# Altium footprint library LED_THT.PcbLib: 82 footprints (part 3 of 6)
Each footprint in its own frame and in the unit in brackets; x right, y up, seen from the top. Pads: shape width x height; smd on the part's side, far side on the other; paste and mask are expansions set on the pad; w line width, h text height; cw(c..) or ccw(c..) is an arc to the next point about the centre after c.
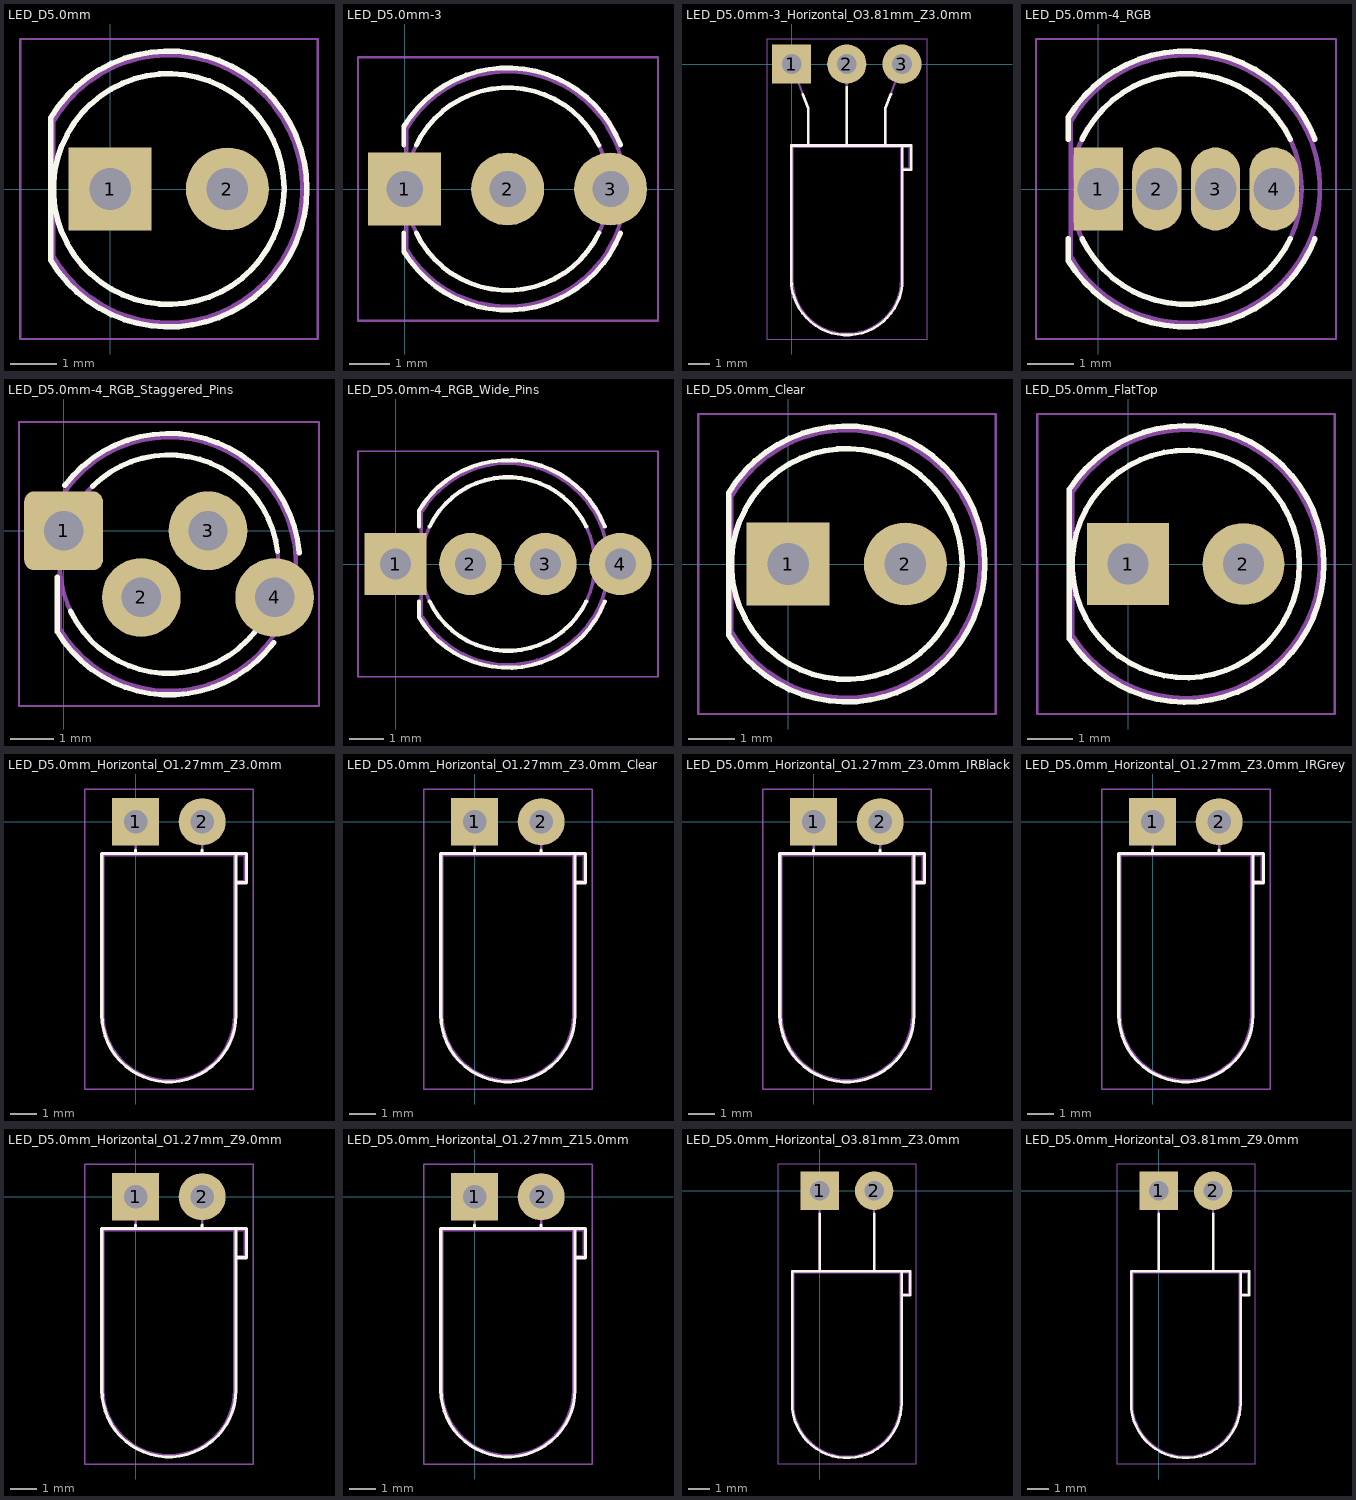
[diagram p2: the footprints below, top view; thin cyan lines are the x and y axes]

## LED_D5.0mm [mm]
pads (2):
  rect 1.8x1.8 hole 0.9: 1(0,0)
  round 1.8 hole 0.9: 2(2.54,0)
F.SilkS:
  circle w0.12: c1.27,0 r2.5
  lines w0.12: -1.29,-1.545 -1.29,1.545 ; -1.29,-1.545 ccw(c1.27,0) 4.26,0 ccw(c1.27,0) -1.29,1.545
F.CrtYd:
  lines w0.05: -1.95,-3.25 4.5,-3.25 4.5,3.25 -1.95,3.25 -1.95,-3.25
F.Fab:
  circle w0.1: c1.27,0 r2.5
  lines w0.1: -1.23,-1.47 -1.23,1.47 cw(c1.27,0) -1.23,-1.47
  text "'.Designator'" at -2.067,-0.752 h0.8

## LED_D5.0mm-3 [mm]
pads (3):
  rect 1.8x1.8 hole 0.9: 1(0,0)
  round 1.8 hole 0.9: 2(2.54,0) 3(5.08,0)
F.SilkS:
  lines w0.12: -0.02,-1.545 -0.02,-1.08 ; -0.02,-1.545 ccw(c2.54,0) 5.328,-1.081 ; -0.02,1.08 -0.02,1.545 ; -0.02,1.545 cw(c2.54,0) 5.328,1.081 ; 0.285,-1.08 ccw(c2.54,0) 4.794,-1.08 ; 0.285,1.08 cw(c2.54,0) 4.794,1.08
F.CrtYd:
  lines w0.05: -1.15,-3.25 -1.15,3.25 6.25,3.25 6.25,-3.25 -1.15,-3.25
F.Fab:
  circle w0.1: c2.54,0 r2.5
  lines w0.1: 0.04,-1.47 0.04,1.47 cw(c2.54,0) 0.04,-1.47

## LED_D5.0mm-3_Horizontal_O3.81mm_Z3.0mm [mm]
pads (3):
  rect 1.8x1.8 hole 0.9: 1(0,0)
  round 1.8 hole 0.9: 2(2.54,0) 3(5.08,0)
F.SilkS:
  lines w0.12: 0.508,-1.397 0.762,-2.032 0.762,-3.75 ; 4.318,-3.75 4.318,-2.032 4.572,-1.397 ; 5.1,-3.75 5.1,-4.87 5.5,-4.87 5.5,-3.75 5.1,-3.75 ; 5.1,-3.75 -0.02,-3.75 -0.02,-9.91 ccw(c2.54,-9.91) 5.1,-9.91 5.1,-3.75 ; 2.54,-3.75 2.54,-1.08 2.54,-3.75
F.CrtYd:
  lines w0.05: -1.15,-12.65 -1.15,1.15 6.25,1.15 6.25,-12.65 -1.15,-12.65
F.Fab:
  lines w0.1: 0,0 0.762,-2.032 0.762,-3.81 ; 4.318,-3.81 4.318,-2.032 5.08,0 ; 5.04,-3.81 0.04,-3.81 0.04,-9.91 ccw(c2.54,-9.91) 5.04,-9.91 5.04,-3.81 ; 5.04,-3.81 5.04,-4.81 5.44,-4.81 5.44,-3.81 5.04,-3.81 ; 2.54,-3.81 2.54,0 2.54,-3.81
  text "'.Designator'" at -1.507,-8.46 h1

## LED_D5.0mm-4_RGB [mm]
pads (4):
  rect 1.07x1.8 hole 0.9: 1(0,0)
  rrect100% 1.07x1.8 hole 0.9: 2(1.27,0) 3(2.54,0) 4(3.81,0)
F.SilkS:
  lines w0.12: -0.655,-1.545 -0.655,-1.08 ; -0.655,-1.545 ccw(c1.905,0) 4.693,-1.081 ; -0.655,1.08 -0.655,1.545 ; -0.655,1.545 cw(c1.905,0) 4.693,1.081 ; -0.35,-1.08 ccw(c1.905,0) 4.159,-1.08 ; -0.35,1.08 cw(c1.905,0) 4.159,1.08
F.CrtYd:
  lines w0.05: -1.35,-3.25 5.15,-3.25 5.15,3.25 -1.35,3.25 -1.35,-3.25
F.Fab:
  circle w0.1: c1.905,0 r2.5
  lines w0.1: -0.595,-1.47 -0.595,1.47 cw(c1.905,0) -0.595,-1.47
  text "'.Designator'" at -2.142,3.12 h1

## LED_D5.0mm-4_RGB_Staggered_Pins [mm]
pads (4):
  rrect25% 1.8x1.8 hole 0.9: 1(0,0)
  round 1.8 hole 0.9: 2(1.778,-1.524) 3(3.302,0) 4(4.826,-1.524)
F.SilkS:
  lines w0.12: -0.147,-2.307 -0.147,-1.061 ; -0.147,-2.307 ccw(c2.413,-0.762) 4.804,-2.557 ; 0.028,1.038 cw(c2.413,-0.762) 5.39,-0.504 ; 0.158,-1.842 ccw(c2.413,-0.762) 4.372,-2.315 ; 0.66,1.016 cw(c2.413,-0.762) 4.893,-0.476
F.CrtYd:
  lines w0.05: -1.02,-4.01 -1.02,2.49 5.84,2.49 5.84,-4.01 -1.02,-4.01
F.Fab:
  circle w0.1: c2.413,-0.762 r2.5
  lines w0.1: -0.087,-2.232 -0.087,0.708 cw(c2.413,-0.762) -0.087,-2.232
  text "'.Designator'" at -1.634,2.358 h1

## LED_D5.0mm-4_RGB_Wide_Pins [mm]
pads (4):
  rect 1.8x1.8 hole 0.9: 1(0,0)
  round 1.8 hole 0.9: 2(2.159,0) 3(4.318,0) 4(6.477,0)
F.SilkS:
  lines w0.12: 0.679,-1.545 0.679,-1.08 ; 0.679,-1.545 ccw(c3.238,0) 6.026,-1.081 ; 0.679,1.08 0.679,1.545 ; 0.679,1.545 cw(c3.238,0) 6.026,1.081 ; 0.984,-1.08 ccw(c3.238,0) 5.493,-1.08 ; 0.984,1.08 cw(c3.238,0) 5.493,1.08
F.CrtYd:
  lines w0.05: -1.08,-3.25 -1.08,3.25 7.56,3.25 7.56,-3.25 -1.08,-3.25
F.Fab:
  circle w0.1: c3.238,0 r2.5
  lines w0.1: 0.738,-1.47 0.738,1.47 cw(c3.238,0) 0.738,-1.47
  text "'.Designator'" at -0.808,3.12 h1

## LED_D5.0mm_Clear [mm]
pads (2):
  rect 1.8x1.8 hole 0.9: 1(0,0)
  round 1.8 hole 0.9: 2(2.54,0)
F.SilkS:
  circle w0.12: c1.27,0 r2.5
  lines w0.12: -1.29,-1.545 -1.29,1.545 ; -1.29,-1.545 ccw(c1.27,0) 4.26,0 ccw(c1.27,0) -1.29,1.545
F.CrtYd:
  lines w0.05: -1.95,-3.25 4.5,-3.25 4.5,3.25 -1.95,3.25 -1.95,-3.25
F.Fab:
  circle w0.1: c1.27,0 r2.5
  lines w0.1: -1.23,-1.47 -1.23,1.47 cw(c1.27,0) -1.23,-1.47
  text "'.Designator'" at -2.067,-0.752 h0.8

## LED_D5.0mm_FlatTop [mm]
pads (2):
  rect 1.8x1.8 hole 0.9: 1(0,0)
  round 1.8 hole 0.9: 2(2.54,0)
F.SilkS:
  circle w0.12: c1.27,0 r2.5
  lines w0.12: 4.31,-0.002 ccw(c1.27,0) -1.29,1.64 -1.29,-1.64 ccw(c1.27,0) 4.31,0.002
F.CrtYd:
  lines w0.05: -2,-3.3 4.55,-3.3 4.55,3.3 -2,3.3 -2,-3.3
F.Fab:
  circle w0.1: c1.27,0 r2.5
  lines w0.1: -1.23,-1.566 -1.23,1.566 cw(c1.27,0) -1.231,-1.565

## LED_D5.0mm_Horizontal_O1.27mm_Z3.0mm [mm]
pads (2):
  rect 1.8x1.8 hole 0.9: 1(0,0)
  round 1.8 hole 0.9: 2(2.54,0)
F.SilkS:
  lines w0.12: 3.83,-1.21 4.23,-1.21 4.23,-2.33 3.83,-2.33 3.83,-1.21 ; 3.83,-1.21 -1.29,-1.21 -1.29,-7.37 ccw(c1.27,-7.37) 3.83,-7.37 3.83,-1.21 ; 0,-1.21 0,-1.08 0,-1.21 ; 2.54,-1.21 2.54,-1.08 2.54,-1.21
F.CrtYd:
  lines w0.05: -1.95,-10.2 -1.95,1.25 4.5,1.25 4.5,-10.2 -1.95,-10.2
F.Fab:
  lines w0.1: 3.77,-1.27 4.17,-1.27 4.17,-2.27 3.77,-2.27 3.77,-1.27 ; 3.77,-1.27 -1.23,-1.27 -1.23,-7.37 ccw(c1.27,-7.37) 3.77,-7.37 3.77,-1.27 ; 0,-1.27 0,0 0,-1.27 ; 2.54,-1.27 2.54,0 2.54,-1.27

## LED_D5.0mm_Horizontal_O1.27mm_Z3.0mm_Clear [mm]
pads (2):
  rect 1.8x1.8 hole 0.9: 1(0,0)
  round 1.8 hole 0.9: 2(2.54,0)
F.SilkS:
  lines w0.12: 3.83,-1.21 -1.29,-1.21 -1.29,-7.37 ccw(c1.27,-7.37) 3.83,-7.37 3.83,-1.21 ; 3.83,-1.21 4.23,-1.21 4.23,-2.33 3.83,-2.33 3.83,-1.21 ; 0,-1.21 0,-1.08 0,-1.21 ; 2.54,-1.21 2.54,-1.08 2.54,-1.21
F.CrtYd:
  lines w0.05: -1.95,-10.2 4.5,-10.2 4.5,1.25 -1.95,1.25 -1.95,-10.2
F.Fab:
  lines w0.1: 3.77,-1.27 4.17,-1.27 4.17,-2.27 3.77,-2.27 3.77,-1.27 ; 3.77,-1.27 3.77,-7.37 cw(c1.27,-7.37) -1.23,-7.37 -1.23,-1.27 3.77,-1.27 ; 0,-1.27 0,0 0,-1.27 ; 2.54,-1.27 2.54,0 2.54,-1.27
  text "'.Designator'" at -2.777,-0.84 h1

## LED_D5.0mm_Horizontal_O1.27mm_Z3.0mm_IRBlack [mm]
pads (2):
  rect 1.8x1.8 hole 0.9: 1(0,0)
  round 1.8 hole 0.9: 2(2.54,0)
F.SilkS:
  lines w0.12: 3.83,-1.21 -1.29,-1.21 -1.29,-7.37 ccw(c1.27,-7.37) 3.83,-7.37 3.83,-1.21 ; 3.83,-1.21 3.83,-2.33 4.23,-2.33 4.23,-1.21 3.83,-1.21 ; 0,-1.21 0,-1.08 0,-1.21 ; 2.54,-1.21 2.54,-1.08 2.54,-1.21
F.CrtYd:
  lines w0.05: -1.95,-10.2 -1.95,1.25 4.5,1.25 4.5,-10.2 -1.95,-10.2
F.Fab:
  lines w0.1: 3.77,-1.27 4.17,-1.27 4.17,-2.27 3.77,-2.27 3.77,-1.27 ; 3.77,-1.27 3.77,-7.37 cw(c1.27,-7.37) -1.23,-7.37 -1.23,-1.27 3.77,-1.27 ; 0,-1.27 0,0 0,-1.27 ; 2.54,-1.27 2.54,0 2.54,-1.27
  text "'.Designator'" at -2.777,-0.84 h1

## LED_D5.0mm_Horizontal_O1.27mm_Z3.0mm_IRGrey [mm]
pads (2):
  rect 1.8x1.8 hole 0.9: 1(0,0)
  round 1.8 hole 0.9: 2(2.54,0)
F.SilkS:
  lines w0.12: 3.83,-1.21 -1.29,-1.21 -1.29,-7.37 ccw(c1.27,-7.37) 3.83,-7.37 3.83,-1.21 ; 3.83,-1.21 4.23,-1.21 4.23,-2.33 3.83,-2.33 3.83,-1.21 ; 0,-1.21 0,-1.08 0,-1.21 ; 2.54,-1.21 2.54,-1.08 2.54,-1.21
F.CrtYd:
  lines w0.05: -1.95,-10.2 4.5,-10.2 4.5,1.25 -1.95,1.25 -1.95,-10.2
F.Fab:
  lines w0.1: 3.77,-1.27 3.77,-2.27 4.17,-2.27 4.17,-1.27 3.77,-1.27 ; 3.77,-1.27 -1.23,-1.27 -1.23,-7.37 ccw(c1.27,-7.37) 3.77,-7.37 3.77,-1.27 ; 0,-1.27 0,0 0,-1.27 ; 2.54,-1.27 2.54,0 2.54,-1.27
  text "'.Designator'" at -2.777,-0.84 h1

## LED_D5.0mm_Horizontal_O1.27mm_Z9.0mm [mm]
pads (2):
  rect 1.8x1.8 hole 0.9: 1(0,0)
  round 1.8 hole 0.9: 2(2.54,0)
F.SilkS:
  lines w0.12: 3.83,-1.21 3.83,-2.33 4.23,-2.33 4.23,-1.21 3.83,-1.21 ; 3.83,-1.21 3.83,-7.37 cw(c1.27,-7.37) -1.29,-7.37 -1.29,-1.21 3.83,-1.21 ; 0,-1.21 0,-1.08 0,-1.21 ; 2.54,-1.21 2.54,-1.08 2.54,-1.21
F.CrtYd:
  lines w0.05: -1.95,-10.2 -1.95,1.25 4.5,1.25 4.5,-10.2 -1.95,-10.2
F.Fab:
  lines w0.1: 3.77,-1.27 4.17,-1.27 4.17,-2.27 3.77,-2.27 3.77,-1.27 ; 3.77,-1.27 -1.23,-1.27 -1.23,-7.37 ccw(c1.27,-7.37) 3.77,-7.37 3.77,-1.27 ; 0,-1.27 0,0 0,-1.27 ; 2.54,-1.27 2.54,0 2.54,-1.27

## LED_D5.0mm_Horizontal_O1.27mm_Z15.0mm [mm]
pads (2):
  rect 1.8x1.8 hole 0.9: 1(0,0)
  round 1.8 hole 0.9: 2(2.54,0)
F.SilkS:
  lines w0.12: 3.83,-1.21 -1.29,-1.21 -1.29,-7.37 ccw(c1.27,-7.37) 3.83,-7.37 3.83,-1.21 ; 3.83,-1.21 3.83,-2.33 4.23,-2.33 4.23,-1.21 3.83,-1.21 ; 0,-1.21 0,-1.08 0,-1.21 ; 2.54,-1.21 2.54,-1.08 2.54,-1.21
F.CrtYd:
  lines w0.05: -1.95,-10.2 -1.95,1.25 4.5,1.25 4.5,-10.2 -1.95,-10.2
F.Fab:
  lines w0.1: 3.77,-1.27 3.77,-2.27 4.17,-2.27 4.17,-1.27 3.77,-1.27 ; 3.77,-1.27 3.77,-7.37 cw(c1.27,-7.37) -1.23,-7.37 -1.23,-1.27 3.77,-1.27 ; 0,-1.27 0,0 0,-1.27 ; 2.54,-1.27 2.54,0 2.54,-1.27

## LED_D5.0mm_Horizontal_O3.81mm_Z3.0mm [mm]
pads (2):
  rect 1.8x1.8 hole 0.9: 1(0,0)
  round 1.8 hole 0.9: 2(2.54,0)
F.SilkS:
  lines w0.12: 3.83,-3.75 -1.29,-3.75 -1.29,-9.91 ccw(c1.27,-9.91) 3.83,-9.91 3.83,-3.75 ; 3.83,-3.75 4.23,-3.75 4.23,-4.87 3.83,-4.87 3.83,-3.75 ; 0,-3.75 0,-1.08 0,-3.75 ; 2.54,-3.75 2.54,-1.08 2.54,-3.75
F.CrtYd:
  lines w0.05: -1.95,-12.75 -1.95,1.25 4.5,1.25 4.5,-12.75 -1.95,-12.75
F.Fab:
  lines w0.1: 3.77,-3.81 3.77,-9.91 cw(c1.27,-9.91) -1.23,-9.91 -1.23,-3.81 3.77,-3.81 ; 3.77,-3.81 3.77,-4.81 4.17,-4.81 4.17,-3.81 3.77,-3.81 ; 0,-3.81 0,0 0,-3.81 ; 2.54,-3.81 2.54,0 2.54,-3.81

## LED_D5.0mm_Horizontal_O3.81mm_Z9.0mm [mm]
pads (2):
  rect 1.8x1.8 hole 0.9: 1(0,0)
  round 1.8 hole 0.9: 2(2.54,0)
F.SilkS:
  lines w0.12: 3.83,-3.75 -1.29,-3.75 -1.29,-9.91 ccw(c1.27,-9.91) 3.83,-9.91 3.83,-3.75 ; 3.83,-3.75 3.83,-4.87 4.23,-4.87 4.23,-3.75 3.83,-3.75 ; 0,-3.75 0,-1.08 0,-3.75 ; 2.54,-3.75 2.54,-1.08 2.54,-3.75
F.CrtYd:
  lines w0.05: -1.95,-12.75 4.5,-12.75 4.5,1.25 -1.95,1.25 -1.95,-12.75
F.Fab:
  lines w0.1: 3.77,-3.81 4.17,-3.81 4.17,-4.81 3.77,-4.81 3.77,-3.81 ; 3.77,-3.81 -1.23,-3.81 -1.23,-9.91 ccw(c1.27,-9.91) 3.77,-9.91 3.77,-3.81 ; 0,-3.81 0,0 0,-3.81 ; 2.54,-3.81 2.54,0 2.54,-3.81